# Altium schematic symbol library GOSTPowerTransducer.SchLib: 4 symbols
Pins are listed as number, name and electrical type; pins without a type are passive.

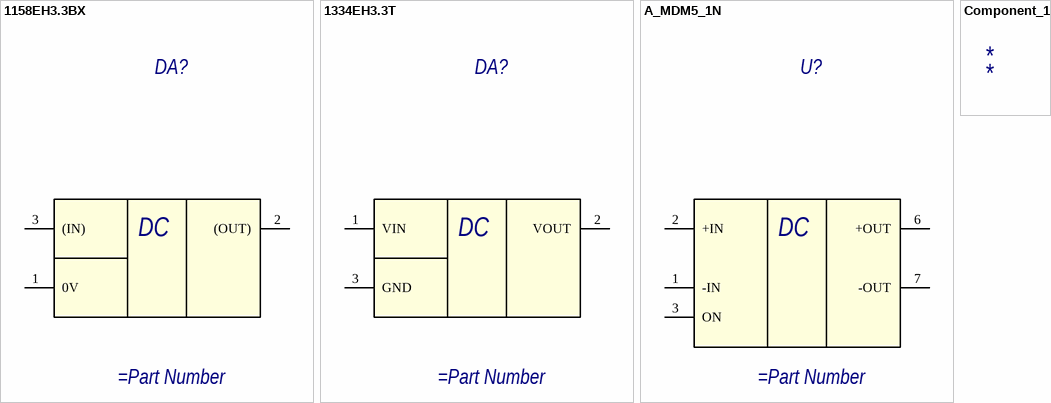
[diagram p0: symbols 1158EH3.3ВX to Component_1]

## 1158EH3.3ВX
designator DA?
Непрерывные стабилизаторы с фиксированным выходным напряжением / положительной полярности; Value: h=12.1; Class: нет данных; FullName: нет данных; Section: нет данных
pins: 1 0V, 2 (OUT), 3 (IN), 5 hidden, 8 hidden
text: DC

## 1334EH3.3T
designator DA?
Микросхемы интегральные серии 1334 с фиксированным выходным напряжением / положительной и отрицательной полярности с номинальным значением тока 100 мА; Value: h=12.1; Class: нет данных; FullName: нет данных; Section: нет данных
pins: 1 VIN, 2 VOUT, 3 GND, 5 hidden, 8 hidden
text: DC

## A_MDM5_1N
designator U?
Изолированный DC/DC преобразователь
pins: 1 -IN, 2 +IN, 3 ON, 5 hidden, 6 +OUT, 7 -OUT, 8 hidden
text: DC

## Component_1
designator *